# EAGLE library part TFT_SPI_14P_MODULE (library TFT_SPI_14P)
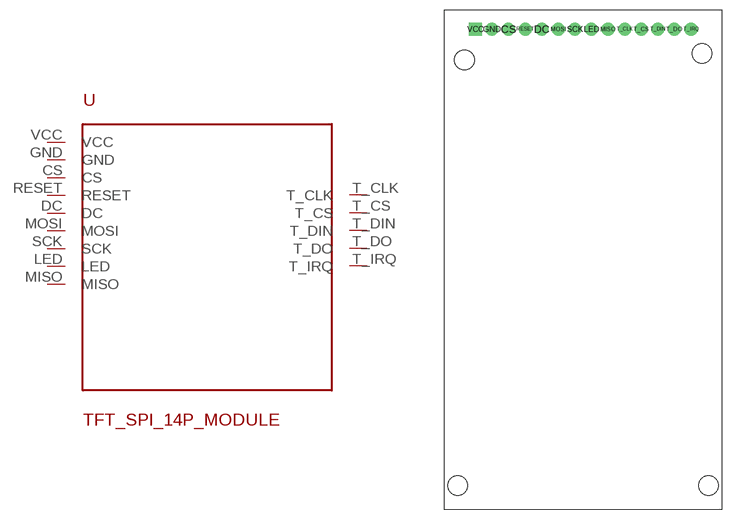
[diagram p0: symbol with the pads of TFT_2_4_SPI_MODULE; footprint TFT_2_4_SPI_MODULE]

Designator prefix -

## TFT_SPI_14P_MODULE  [TFT_2_4_SPI_MODULE]
CS  CS  in
DC  DC  in
GND  GND  pwr
LED  LED  in
MISO  MISO  out
MOSI  MOSI  in
RESET  RESET  in
SCK  SCK  in
T_CLK  T_CLK  in
T_CS  T_CS  in
T_DIN  T_DIN  in
T_DO  T_DO  out
T_IRQ  T_IRQ  out
VCC  VCC  pwr

## Footprint TFT_2_4_SPI_MODULE (pad centres in mm)
drill 1 pad 2: CS -11.43,35.3; DC -6.35,35.3; GND -13.97,35.3; LED 1.27,35.3; MISO 3.81,35.3; MOSI -3.81,35.3; RESET -8.89,35.3; SCK -1.27,35.3; T_CLK 6.35,35.3; T_CS 8.89,35.3; T_DIN 11.43,35.3; T_DO 13.97,35.3; T_IRQ 16.51,35.3
drill 1 pad 2 square: VCC -16.51,35.3
hole 3 at -18.2,30.6
hole 3 at 18.2,31.6
hole 3 at -19.2,-34.6
hole 3 at 19.2,-34.6